# EAGLE library part SPECTROMETER (library general)
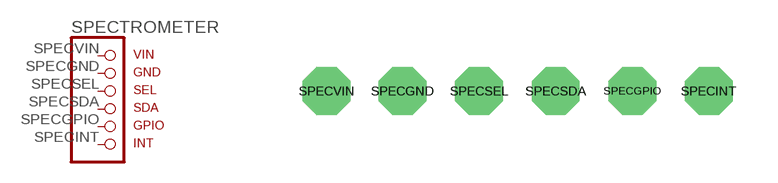
[diagram p1: symbol with the pads of SPECTROMETER; footprint SPECTROMETER]

Designator prefix -

## SPECTROMETER  [SPECTROMETER]
SPECGND  SPECGND  pas
SPECGPIO  SPECGPIO  pas
SPECINT  SPECINT  pas
SPECSDA  SPECSDA  pas
SPECSEL  SPECSEL  pas
SPECVIN  SPECVIN  pas

## Footprint SPECTROMETER (pad centres in mm)
THROUGH-HOLE PAD
drill 0.813 pad 1.6 octagon: SPECGND 2.54,0; SPECGPIO 10.22,0; SPECINT 12.78,0; SPECSDA 7.66,0; SPECSEL 5.1,0; SPECVIN 0,0